# EAGLE library part LMX2541 (library LMX2541)
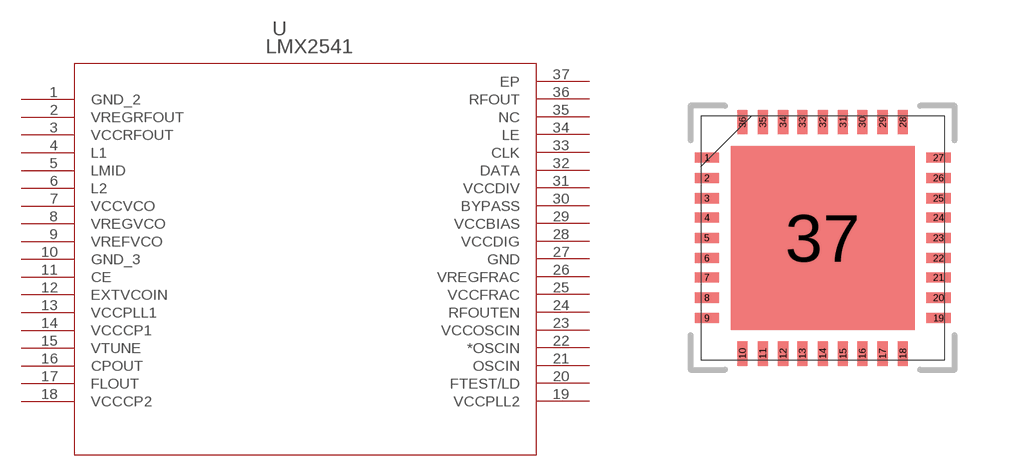
[diagram p0: symbol with the pads of SQA36A; footprint SQA36A]

Designator prefix -

## LMX2541  [SQA36A]
1  GND_2  pwr
2  VREGRFOUT  out
3  VCCRFOUT  pwr
4  L1  nc
5  LMID  nc
6  L2  nc
7  VCCVCO  pwr
8  VREGVCO  out
9  VREFVCO  pas
10  GND_3  pwr
11  CE  pas
12  EXTVCOIN  in
13  VCCPLL1  pwr
14  VCCCP1  pwr
15  VTUNE  in
16  CPOUT  out
17  FLOUT  out
18  VCCCP2  pwr
19  VCCPLL2  pwr
20  FTEST/LD  out
21  OSCIN  in
22  *OSCIN  in
23  VCCOSCIN  pwr
24  RFOUTEN  in
25  VCCFRAC  pwr
26  VREGFRAC  out
27  GND  pwr
28  VCCDIG  pwr
29  VCCBIAS  pwr
30  BYPASS  pas
31  VCCDIV  pwr
32  DATA  in
33  CLK  in
34  LE  in
35  NC  nc
36  RFOUT  out
37  EP  pas

## Footprint SQA36A (pad centres in mm)
smd 0.61 x 0.254: 1 -2.896,2.007; 2 -2.896,1.499; 3 -2.896,0.991; 4 -2.896,0.508; 5 -2.896,0; 6 -2.896,-0.508; 7 -2.896,-0.991; 8 -2.896,-1.499; 9 -2.896,-2.007; 19 2.896,-2.007; 20 2.896,-1.499; 21 2.896,-0.991; 22 2.896,-0.508; 23 2.896,0; 24 2.896,0.508; 25 2.896,0.991; 26 2.896,1.499; 27 2.896,2.007
smd 0.254 x 0.61: 10 -2.007,-2.896; 11 -1.499,-2.896; 12 -0.991,-2.896; 13 -0.508,-2.896; 14 0,-2.896; 15 0.508,-2.896; 16 0.991,-2.896; 17 1.499,-2.896; 18 2.007,-2.896; 28 2.007,2.896; 29 1.499,2.896; 30 0.991,2.896; 31 0.508,2.896; 32 0,2.896; 33 -0.508,2.896; 34 -0.991,2.896; 35 -1.499,2.896; 36 -2.007,2.896
smd 4.597 x 4.597: 37 0,0